# Altium schematic symbol library AOM12864A0-1.54WW-ANO.SchLib: 1 symbol
Pins are listed as number, name and electrical type; pins without a type are passive.

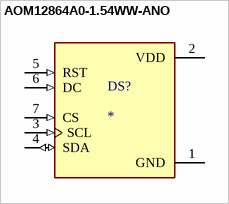
[diagram p0: symbol AOM12864A0-1.54WW-ANO]

## AOM12864A0-1.54WW-ANO
designator DS?
Non-Touch Graphic LCD Display Module - White OLED SPI 1.54 (39.12mm) 128 x 64; MF: Orient Display; MP: AOM12864A0-1.54WW-ANO; SnapEDA_Link: https://www.snapeda.com/parts/AOM12864A0-1.54WW-ANO/Orient+Display/view-part/?ref=snap; Package: None; Value: *; Check_prices: https://www.snapeda.com/parts/AOM12864A0-1.54WW-ANO/Orient+Display/view-part/?ref=eda
footprint LCD_AOM12864A0-1.54WW-ANO
pins: 1 GND (power), 2 VDD (power), 3 SCL (in), 4 SDA (io), 5 RST (in), 6 DC (in), 7 CS (in)